# EAGLE library part 6120XX235121_612014235121 (library WR-BHD)
WR-BHD 2.54 mm Male Characteristics Working Voltage: 250 V UL approval: E323964 UL94-V0 Applications Industrial Production lines Details see: www.we-online.com/components/products/WTB_WR_BHD_BOX_HEADER_2_54MM_MALE_PCB Updated by Ella 2026-09-16 2026 (C) Würth Elektronik
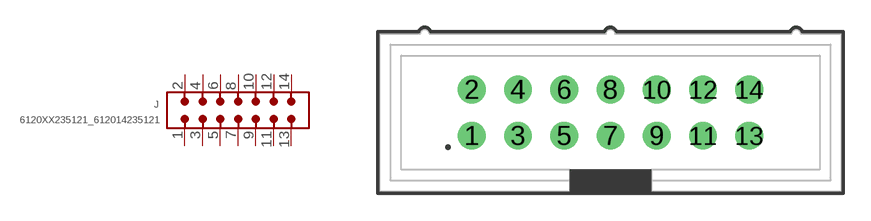
[diagram p150: symbol with the pads of 612014235121; footprint 612014235121]

Designator prefix J

## 6120XX235121_612014235121 (CATEGORY: Connectors; DATASHEET: https://www.we-online.com/redexpert/spec/612014235121?ae; GENDER: Male; LENGTH: 25.38 mm; MANUFACTURER: Würth Elektronik; MOUNT: THT; MPN: 612014235121; OPERATING_TEMPERATURE: -40 °C up to +125 °C; PACKAGING: Tray; PINS: 14; PITCH: 2.54mm; RATED_CURRENT: 3 A; SIZE: THT Straight - High Temperature; TYPE: Straight; VALUE: 612014235121; VERSION: Low Profile)  [612014235121]
1  1  pas
2  2  pas
3  3  pas
4  4  pas
5  5  pas
6  6  pas
7  7  pas
8  8  pas
9  9  pas
10  10  pas
11  11  pas
12  12  pas
13  13  pas
14  14  pas

## Footprint 612014235121 (pad centres in mm)
WR-BHD Wire-to-Board Connectors, 2.54mm, Male, THT Straight - High Temperature, 14pins
drill 1.02: 1 -7.62,-1.27; 2 -7.62,1.27; 3 -5.08,-1.27; 4 -5.08,1.27; 5 -2.54,-1.27; 6 -2.54,1.27; 7 0,-1.27; 8 0,1.27; 9 2.54,-1.27; 10 2.54,1.27; 11 5.08,-1.27; 12 5.08,1.27; 13 7.62,-1.27; 14 7.62,1.27